# Altium footprint library PCM2706 Bus Powered USB DAC 32.PcbLib: 9 footprints
Each footprint in its own frame and in the unit in brackets; x right, y up, seen from the top. Pads: shape width x height; smd on the part's side, far side on the other; paste and mask are expansions set on the pad; w line width, h text height; cw(c..) or ccw(c..) is an arc to the next point about the centre after c.
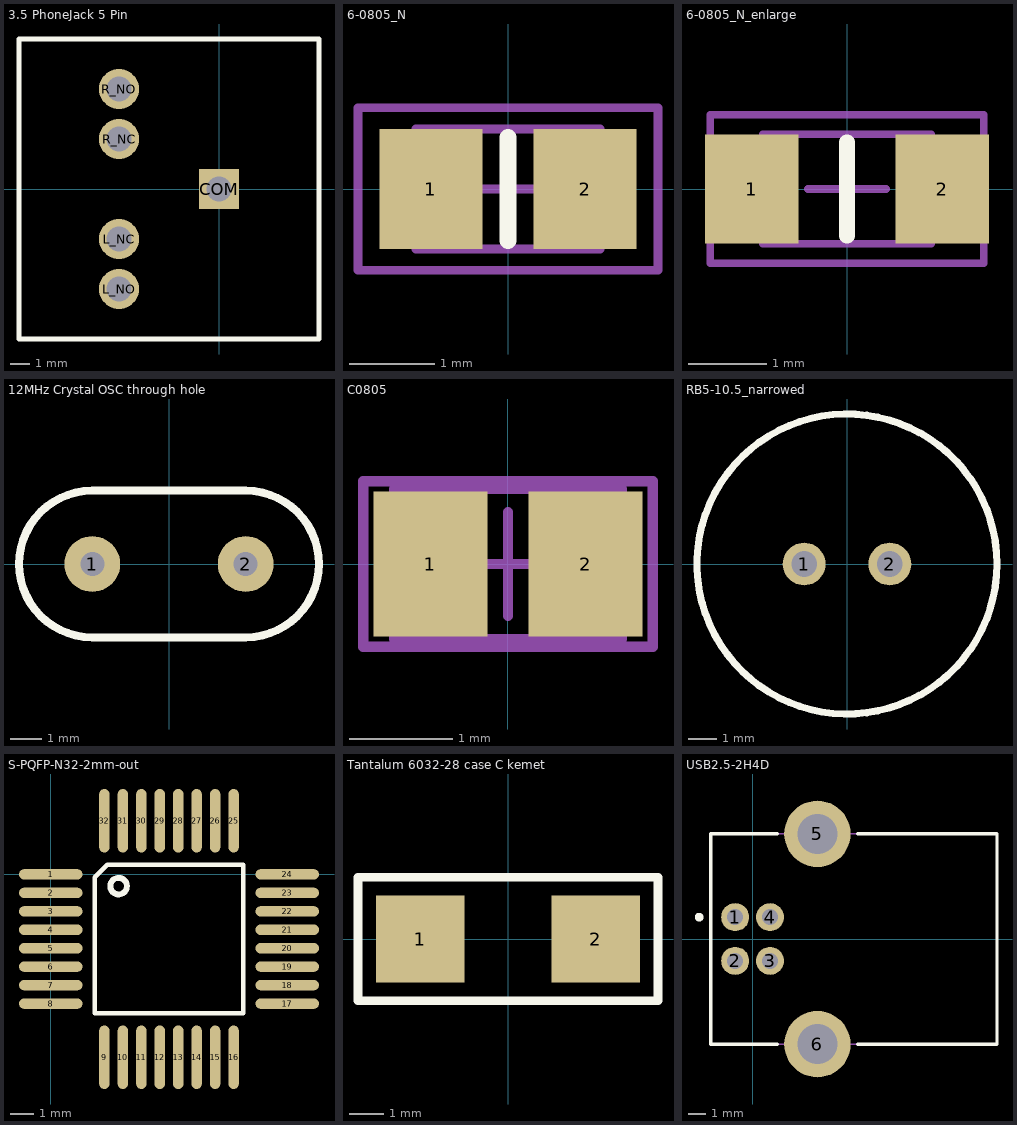
[diagram p0: the footprints below, top view; thin cyan lines are the x and y axes]

## 3.5 PhoneJack 5 Pin [mil]
pads (5):
  rect 80x80 hole 50: COM(0,0)
  round 80 hole 50: L_NC(-200,-100) L_NO(-200,-200) R_NC(-200,100) R_NO(-200,200)
Top Overlay:
  lines w10: -400,-300 -400,300 200,300 200,-300 -400,-300

## 6-0805_N [mm]
pads (2):
  rect 1.2x1.4 smd: 1(-0.9,0) 2(0.9,0)
Top Overlay:
  lines w0.2: 0,-0.6 0,0.6
Mechanical 13:
  lines w0.1: -1.075,-0.7 -1.075,0.7 1.075,0.7 1.075,-0.7 -1.075,-0.7
Mechanical 15:
  lines w0.1: -0.5,0 0.5,0 ; 0,-0.5 0,0.5 ; -1.75,-0.95 -1.75,0.95 1.75,0.95 1.75,-0.95 -1.75,-0.95
3D body: height 0.7, standoff 0, extent -1.075,-0.7 1.075,0.7

## 6-0805_N_enlarge [mm]
pads (2):
  rect 1.2x1.4 smd: 1(-1.219,0) 2(1.219,0)
Top Overlay:
  lines w0.2: 0,-0.6 0,0.6
Mechanical 13:
  lines w0.1: -1.075,-0.7 -1.075,0.7 1.075,0.7 1.075,-0.7 -1.075,-0.7
Mechanical 15:
  lines w0.1: -0.5,0 0.5,0 ; 0,-0.5 0,0.5 ; -1.75,-0.95 -1.75,0.95 1.75,0.95 1.75,-0.95 -1.75,-0.95
3D body: height 0.7, standoff 0, extent -1.075,-0.7 1.075,0.7

## 12MHz Crystal OSC through hole [mil]
pads (2):
  round 70 hole 30: 1(-96.06,0) 2(96.06,0)
Top Overlay:
  lines w10: -96.06,-91.73 cw(c-96.06,0) -96.06,91.73 96.06,91.73 cw(c96.06,0) 96.06,-91.73 -96.06,-91.73

## C0805 [mm]
pads (2):
  rect 1.1x1.4 smd: 1(-0.75,0) 2(0.75,0)
Mechanical 13:
  lines w0.1: -1.1,-0.725 -1.1,0.725 1.1,0.725 1.1,-0.725 -1.1,-0.725
Mechanical 15:
  lines w0.1: -0.5,0 0.5,0 ; 0,-0.5 0,0.5 ; -1.4,-0.8 -1.4,0.8 1.4,0.8 1.4,-0.8 -1.4,-0.8
3D body: height 1.4, standoff 0, extent -1.1,-0.725 1.1,0.725

## RB5-10.5_narrowed [mm]
pads (2):
  round 1.5 hole 0.9: 1(-1.5,0) 2(1.5,0)
Top Overlay:
  circle w0.25: c0,0 r5.25
Mechanical 1:
  circle w0.02: c0,0 r5.25

## S-PQFP-N32-2mm-out [mm]
pads (32):
  oval 2.75x0.45 smd: 1(0,0) 2(0,-0.8) 3(0,-1.6) 4(0,-2.4) 5(0,-3.2) 6(0,-4) 7(0,-4.8) 8(0,-5.6) 17(10.25,-5.6) 18(10.25,-4.8) 19(10.25,-4) 20(10.25,-3.2) 21(10.25,-2.4) 22(10.25,-1.6) 23(10.25,-0.8) 24(10.25,0)
  oval 0.45x2.75 smd: 9(2.325,-7.925) 10(3.125,-7.925) 11(3.925,-7.925) 12(4.725,-7.925) 13(5.525,-7.925) 14(6.325,-7.925) 15(7.125,-7.925) 16(7.925,-7.925) 25(7.925,2.325) 26(7.125,2.325) 27(6.325,2.325) 28(5.525,2.325) 29(4.725,2.325) 30(3.925,2.325) 31(3.125,2.325) 32(2.325,2.325)
Top Overlay:
  circle w0.254: c2.943,-0.508 r0.359
  lines w0.2: 1.91,-6.015 8.34,-6.015 8.34,0.415 2.447,0.415 1.91,-0.122 1.91,-6.015

## Tantalum 6032-28 case C kemet [mm]
pads (2):
  rect 2.55x2.5 smd: 1(-2.525,0) 2(2.525,0)
Top Overlay:
  lines w0.254: -4.318,-1.778 4.318,-1.778 4.318,1.778 -4.318,1.778 -4.318,-1.778

## USB2.5-2H4D [mm]
pads (6):
  round 1.6 hole 0.92: 1(-1,1.25) 2(-1,-1.25) 3(1,-1.25) 4(1,1.25)
  round 3.8 hole 2.3: 5(3.71,6.02) 6(3.71,-6.02)
Top Overlay:
  circle w0.25: c-3.06,1.25 r0.125
  lines w0.2: 1.41,-6.02 -2.41,-6.02 -2.41,6.02 1.41,6.02 ; 6.01,-6.02 13.99,-6.02 13.99,6.02 6.01,6.02
Mechanical 13:
  lines w0.1: -2.41,-6.02 13.99,-6.02 13.99,6.02 -2.41,6.02 -2.41,-6.02
3D body: height 11.1, standoff 0, extent -2.41,-6.02 13.99,6.02